# EAGLE library part STECKER_WANNE_10 (library robo_ag)
Wannenstecker Reichelt:WSL 10G 2x5 THT
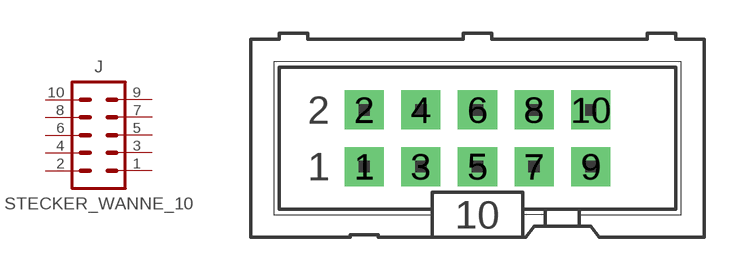
[diagram p4: symbol with the pads of STECKER_WANNE_10; footprint STECKER_WANNE_10]

Designator prefix J

## STECKER_WANNE_10  [STECKER_WANNE_10]
1  1  pas
2  2  pas
3  3  pas
4  4  pas
5  5  pas
6  6  pas
7  7  pas
8  8  pas
9  9  pas
10  10  pas

## Footprint STECKER_WANNE_10 (pad centres in mm)
Wannenstecker [reichelt.de] "WSL 10G"
drill 1 pad 1.75 square: 1 -5.08,-1.27; 2 -5.08,1.27; 4 -2.54,1.27; 5 0,-1.27; 6 0,1.27; 7 2.54,-1.27; 8 2.54,1.27; 9 5.08,-1.27; 10 5.08,1.27
drill 0.914 pad 1.75 square: 3 -2.54,-1.27